# EAGLE library part TPS71219_DRC_10 (library cyberhedz)
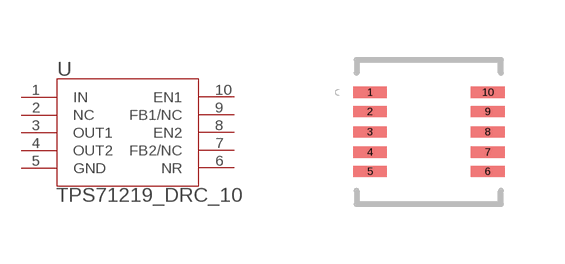
[diagram p13: symbol with the pads of DRC10_2P4X1P65; footprint DRC10_2P4X1P65]

Designator prefix U

## TPS71219_DRC_10 (DATASHEETURL: http://www.ti.com/lit/gpn/TPS71219; DESCRIPTION: Dual 250 mA Output, UltraLow Noise, High PSRR Low Dropout Linear Regulator; FAMILY_NAME: DUAL CHANNEL LDO; GENERIC_PART_NUMBER: TPS71219; INDUSTRY_STD_PKG_TYPE: SON; MANUFACTURER: Texas Instruments; MANUFACTURER_PART_NUMBER: tps71219_drc_10; PACKAGE_DESIGNATOR: DRC; PIN_COUNT: 10; VENDOR: Texas Instruments)  [DRC10_2P4X1P65]
1  IN  in
2  NC  pas
3  OUT1  out
4  OUT2  out
5  GND  pwr
6  NR  out
7  FB2/NC
8  EN2  pas
9  FB1/NC
10  EN1  pas

## Footprint DRC10_2P4X1P65 (pad centres in mm)
smd 0.838 x 0.279: 1 -1.473,0.991; 2 -1.473,0.508; 3 -1.473,0; 4 -1.473,-0.508; 5 -1.473,-0.991; 6 1.473,-0.991; 7 1.473,-0.508; 8 1.473,0; 9 1.473,0.508; 10 1.473,0.991